# EAGLE library part SST39VF040 (library memory_david)
4 Mbit x8 Multi-Purpose Flash Source: http://www.sst.com/dotAsset/40782.pdf
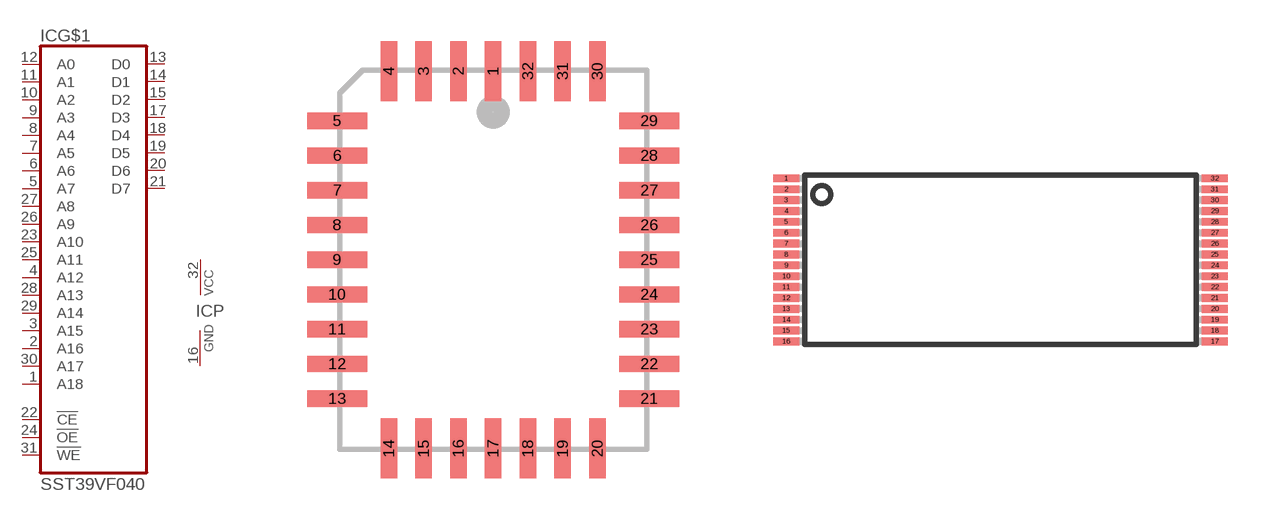
[diagram p67: symbol with the pads of PLCC32R; footprints PLCC32R, TSOP32]

Designator prefix IC; gates G$1=SST39VF040 P=PWRN

## SST39VF040N  [PLCC32R]
1  G$1:A18  in
2  G$1:A16  in
3  G$1:A15  in
4  G$1:A12  in
5  G$1:A7  in
6  G$1:A6  in
7  G$1:A5  in
8  G$1:A4  in
9  G$1:A3  in
10  G$1:A2  in
11  G$1:A1  in
12  G$1:A0  in
13  G$1:D0
14  G$1:D1
15  G$1:D2
16  P:GND  pwr
17  G$1:D3
18  G$1:D4
19  G$1:D5
20  G$1:D6
21  G$1:D7
22  G$1:!CE  in
23  G$1:A10  in
24  G$1:!OE  in
25  G$1:A11  in
26  G$1:A9  in
27  G$1:A8  in
28  G$1:A13  in
29  G$1:A14  in
30  G$1:A17  in
31  G$1:!WE  in
32  P:VCC  pwr

## SST39VF040W  [TSOP32]
1  G$1:A11  in
2  G$1:A9  in
3  G$1:A8  in
4  G$1:A13  in
5  G$1:A14  in
6  G$1:A17  in
7  G$1:!WE  in
8  P:VCC  pwr
9  G$1:A18  in
10  G$1:A16  in
11  G$1:A15  in
12  G$1:A12  in
13  G$1:A7  in
14  G$1:A6  in
15  G$1:A5  in
16  G$1:A4  in
17  G$1:A3  in
18  G$1:A2  in
19  G$1:A1  in
20  G$1:A0  in
21  G$1:D0
22  G$1:D1
23  G$1:D2
24  P:GND  pwr
25  G$1:D3
26  G$1:D4
27  G$1:D5
28  G$1:D6
29  G$1:D7
30  G$1:!CE  in
31  G$1:A10  in
32  G$1:!OE  in

## Footprint PLCC32R (pad centres in mm)
PLASTIC LEADED CHIP CARRIER rectangle
smd 0.6 x 2.2: 1 0,6.9; 2 -1.27,6.9; 3 -2.54,6.9; 4 -3.81,6.9; 14 -3.81,-6.9; 15 -2.54,-6.9; 16 -1.27,-6.9; 17 0,-6.9; 18 1.27,-6.9; 19 2.54,-6.9; 20 3.81,-6.9; 30 3.81,6.9; 31 2.54,6.9; 32 1.27,6.9
smd 2.2 x 0.6: 5 -5.7,5.08; 6 -5.7,3.81; 7 -5.7,2.54; 8 -5.7,1.27; 9 -5.7,0; 10 -5.7,-1.27; 11 -5.7,-2.54; 12 -5.7,-3.81; 13 -5.7,-5.08; 21 5.7,-5.08; 22 5.7,-3.81; 23 5.7,-2.54; 24 5.7,-1.27; 25 5.7,0; 26 5.7,1.27; 27 5.7,2.54; 28 5.7,3.81; 29 5.7,5.08

## Footprint TSOP32 (pad centres in mm)
Thin Small Outline Package
smd 1.2 x 0.36: 1 -9.85,3.75; 2 -9.85,3.25; 3 -9.85,2.75; 4 -9.85,2.25; 5 -9.85,1.75; 6 -9.85,1.25; 7 -9.85,0.75; 8 -9.85,0.25; 9 -9.85,-0.25; 10 -9.85,-0.75; 11 -9.85,-1.25; 12 -9.85,-1.75; 13 -9.85,-2.25; 14 -9.85,-2.75; 15 -9.85,-3.25; 16 -9.85,-3.75; 17 9.85,-3.75; 18 9.85,-3.25; 19 9.85,-2.75; 20 9.85,-2.25; 21 9.85,-1.75; 22 9.85,-1.25; 23 9.85,-0.75; 24 9.85,-0.25; 25 9.85,0.25; 26 9.85,0.75; 27 9.85,1.25; 28 9.85,1.75; 29 9.85,2.25; 30 9.85,2.75; 31 9.85,3.25; 32 9.85,3.75